# Altium footprint library MLACHA_B.PCBLIB: 37 footprints (part 3 of 3)
Each footprint in its own frame and in the unit in brackets; x right, y up, seen from the top. Pads: shape width x height; smd on the part's side, far side on the other; paste and mask are expansions set on the pad; w line width, h text height; cw(c..) or ccw(c..) is an arc to the next point about the centre after c.
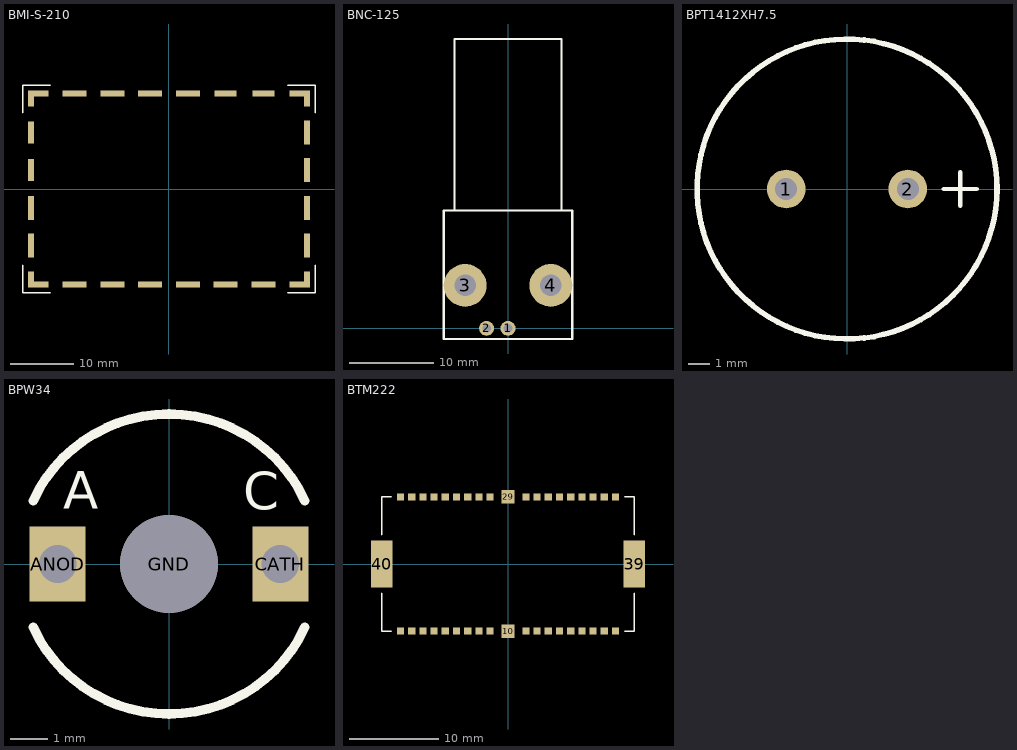
[diagram p2: the footprints below, top view; thin cyan lines are the x and y axes]

## BMI-S-210 [mm]
pads (28):
  rect 3.3x1 smd: 1(-20.75,-15.15) 8(20.75,-15.15) 15(20.75,15.15) 22(-20.75,15.15)
  rect 3.8x1 smd: 2(-15,-15.15) 3(-9,-15.15) 4(-3,-15.15) 5(3,-15.15) 6(9,-15.15) 7(15,-15.15) 18(3,15.15) 19(-3,15.15) 20(-9,15.15) 21(-15,15.15)
  rect 1x2.55 smd: 9(21.9,-14.375) 14(21.9,14.375) 23(-21.9,14.375) 28(-21.9,-14.375)
  rect 1x3.8 smd: 10(21.9,-9) 11(21.9,-3) 12(21.9,3) 13(21.9,9) 26(-21.9,-3) 27(-21.9,-9)
  rect 3.49x1 smd: 16(15,15.15) 17(9,15.15)
  rect 1x3.49 smd: 24(-21.9,9) 25(-21.9,3)
TopOverlay:
  lines w0.25: -23.2,-12.135 -23.2,-16.45 -18.885,-16.45 ; -23.2,12.135 -23.2,16.45 -18.885,16.45 ; 18.885,-16.45 23.2,-16.45 23.2,-12.135 ; 18.885,16.45 23.2,16.45 23.2,12.135
3D body: height 3, standoff 2.8, extent -22,-15.2 22,15.1
3D body: height 3, standoff 0, extent -22.1,-15.3 22,15.2

## BNC-125 [mil]
pads (4):
  round 70 hole 40: 1(0,0) 2(-100,0)
  round 200 hole 100: 3(-200,200) 4(200,200)
TopOverlay:
  lines w10: -250,550 -250,1350 250,1350 250,550 ; -300,-50 -300,550 300,550 300,-50 -300,-50

## BPT1412XH7.5 [mil]
pads (2):
  round 70 hole 40: 1(-110.24,0) 2(110.24,0)
TopOverlay:
  circle w10: c0,0 r271.65
  lines w8: 175,0 235,0 ; 205,-30 205,30
3D body: height 299.21, standoff 291.34, extent 170,-35 240,35
3D body: height 295.28, standoff 0, extent -270,-270 271.17,272.24

## BPW34 [mm]
pads (3):
  rect 1.5x2 hole 1: ANOD(-2.972,0) CATH(2.972,0)
  round 2.6 hole 2.6: GND(0,0)
TopOverlay:
  lines w0.254: -3.625,-1.69 ccw(c0,0) 3.625,-1.69 ; -3.625,1.69 cw(c0,0) 3.625,1.69
  text "C" at 1.975,1.45 h1
  text "A" at -2.825,1.475 h1
BottomOverlay:
  lines w0.254: -1.802,-1.262 ccw(c0,0) 1.802,-1.262 ; -1.802,1.262 cw(c0,0) 1.802,1.262

## BTM222 [mm]
pads (40):
  rect 0.8x0.8 smd: 1(-12,-7.5) 2(-10.75,-7.5) 3(-9.5,-7.5) 4(-8.25,-7.5) 5(-7,-7.5) 6(-5.75,-7.5) 7(-4.5,-7.5) 8(-3.25,-7.5) 9(-2,-7.5) 11(2,-7.5) 12(3.25,-7.5) 13(4.5,-7.5) 14(5.75,-7.5) 15(7,-7.5) 16(8.25,-7.5) 17(9.5,-7.5) 18(10.75,-7.5) 19(12,-7.5) 20(12,7.5) 21(10.75,7.5) 22(9.5,7.5) 23(8.25,7.5) 24(7,7.5) 25(5.75,7.5) 26(4.5,7.5) 27(3.25,7.5) 28(2,7.5) 30(-2,7.5) 31(-3.25,7.5) 32(-4.5,7.5) 33(-5.75,7.5) 34(-7,7.5) 35(-8.25,7.5) 36(-9.5,7.5) 37(-10.75,7.5) 38(-12,7.5)
  rect 1.5x1.5 smd: 10(0,-7.5) 29(0,7.5)
  rect 2.4x5.3 smd: 39(14.1,0) 40(-14.1,0)
TopOverlay:
  lines w0.203: -14.1,-3.3 -14.1,-7.5 -13.05,-7.5 ; -14.1,3.3 -14.1,7.5 -13.05,7.5 ; 13.05,-7.5 14.1,-7.5 14.1,-3.3 ; 13.05,7.5 14.1,7.5 14.1,3.3
3D body: height 0.8, standoff 0, extent 13.8,-2.65 14.1,2.65
3D body: height 0.8, standoff 0, extent -14.1,-2.65 -13.8,2.65
3D body: height 0.8, standoff 0, extent -12.4,7.2 -11.6,7.5
3D body: height 0.8, standoff 0, extent -11.15,7.2 -10.35,7.5
3D body: height 0.8, standoff 0, extent -9.9,7.2 -9.1,7.5
3D body: height 0.8, standoff 0, extent -8.65,7.2 -7.85,7.5
3D body: height 0.8, standoff 0, extent -7.4,7.2 -6.6,7.5
3D body: height 0.8, standoff 0, extent -6.15,7.2 -5.35,7.5
3D body: height 0.8, standoff 0, extent -4.9,7.2 -4.1,7.5
3D body: height 0.8, standoff 0, extent -3.65,7.2 -2.85,7.5
3D body: height 2.8, standoff 0.8, extent -13.7,-7.05 13.65,7.1
3D body: height 0.8, standoff 0, extent -14.1,-7.5 14.1,7.5
3D body: height 0.8, standoff 0, extent -12.4,-7.5 -11.6,-7.2
3D body: height 0.8, standoff 0, extent -11.15,-7.5 -10.35,-7.2
3D body: height 0.8, standoff 0, extent -9.9,-7.5 -9.1,-7.2
3D body: height 0.8, standoff 0, extent -8.65,-7.5 -7.85,-7.2
3D body: height 0.8, standoff 0, extent -7.4,-7.5 -6.6,-7.2
3D body: height 0.8, standoff 0, extent -6.15,-7.5 -5.35,-7.2
3D body: height 0.8, standoff 0, extent -4.9,-7.5 -4.1,-7.2
3D body: height 0.8, standoff 0, extent -3.65,-7.5 -2.85,-7.2
3D body: height 0.8, standoff 0, extent -2.4,-7.5 -1.6,-7.2
3D body: height 0.8, standoff 0, extent -0.75,-7.5 0.75,-7.2
3D body: height 0.8, standoff 0, extent 1.6,-7.5 2.4,-7.2
3D body: height 0.8, standoff 0, extent 2.85,-7.5 3.65,-7.2
3D body: height 0.8, standoff 0, extent 4.1,-7.5 4.9,-7.2
3D body: height 0.8, standoff 0, extent 5.35,-7.5 6.15,-7.2
3D body: height 0.8, standoff 0, extent 6.6,-7.5 7.4,-7.2
3D body: height 0.8, standoff 0, extent 7.85,-7.5 8.65,-7.2
3D body: height 0.8, standoff 0, extent 9.1,-7.5 9.9,-7.2
3D body: height 0.8, standoff 0, extent 10.35,-7.5 11.15,-7.2
3D body: height 0.8, standoff 0, extent 11.6,-7.5 12.4,-7.2
3D body: height 0.8, standoff 0, extent 11.6,7.2 12.4,7.5
3D body: height 0.8, standoff 0, extent 10.35,7.2 11.15,7.5
3D body: height 0.8, standoff 0, extent 9.1,7.2 9.9,7.5
3D body: height 0.8, standoff 0, extent 7.85,7.2 8.65,7.5
3D body: height 0.8, standoff 0, extent 6.6,7.2 7.4,7.5
3D body: height 0.8, standoff 0, extent 5.3,7.2 6.1,7.5
3D body: height 0.8, standoff 0, extent 4.1,7.2 4.9,7.5
3D body: height 0.8, standoff 0, extent 2.85,7.2 3.65,7.5
3D body: height 0.8, standoff 0, extent 1.6,7.2 2.4,7.5
3D body: height 0.8, standoff 0, extent -2.4,7.2 -1.6,7.5
3D body: height 0.8, standoff 0, extent -0.75,7.2 0.75,7.5